# EAGLE library part CD74HC08M96 (library BrownSpaceEngineering)
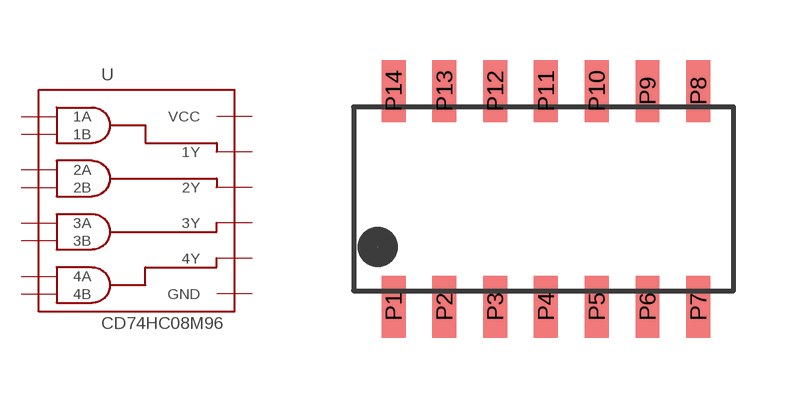
[diagram p14: symbol with the pads of SOIC-14; footprint SOIC-14]

Designator prefix U

## CD74HC08M96  [SOIC-14]
P1  1A  in
P2  1B  in
P3  1Y  out
P4  2A  in
P5  2B  in
P6  2Y  out
P7  GND  pwr
P8  3Y  out
P9  3A  in
P10  3B  in
P11  4Y  out
P12  4A  in
P13  4B  in
P14  VCC  pwr

## Footprint SOIC-14 (pad centres in mm)
smd 0.6 x 1.55: P1 0,0; P2 1.27,0; P3 2.54,0; P4 3.81,0; P5 5.08,0; P6 6.35,0; P7 7.62,0; P8 7.62,5.4; P9 6.35,5.4; P10 5.08,5.4; P11 3.81,5.4; P12 2.54,5.4; P13 1.27,5.4; P14 0,5.4